# Altium footprint library DIP Switch Array.PcbLib: 2 footprints
Each footprint in its own frame and in the unit in brackets; x right, y up, seen from the top. Pads: shape width x height; smd on the part's side, far side on the other; paste and mask are expansions set on the pad; w line width, h text height; cw(c..) or ccw(c..) is an arc to the next point about the centre after c.
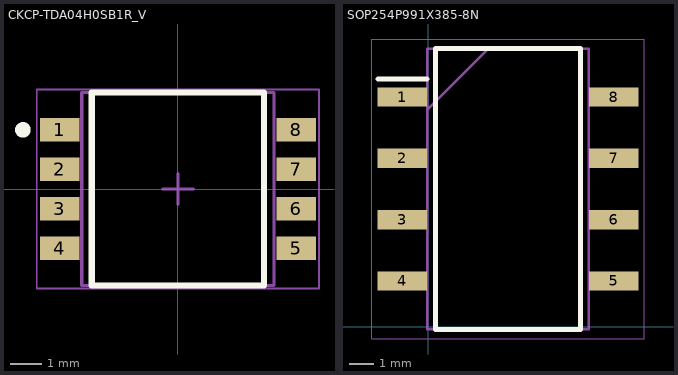
[diagram p0: the footprints below, top view; thin cyan lines are the x and y axes]

## CKCP-TDA04H0SB1R_V [mm] "SMD, 8-Leads, Body 6.21x6.2mm, Pitch 1.27mm"
height 2.3
pads (8):
  rect 1.27x0.76 smd: 1(-3.81,1.905) 2(-3.81,0.635) 3(-3.81,-0.635) 4(-3.81,-1.905) 5(3.81,-1.905) 6(3.81,-0.635) 7(3.81,0.635) 8(3.81,1.905)
Top Overlay:
  circle w0.25: c-4.995,1.905 r0.125
  lines w0.2: -2.775,-3.105 2.775,-3.105 2.775,3.105 -2.775,3.105 -2.775,-3.105
Mechanical 13:
  lines w0.1: -3.1,-3.105 3.1,-3.105 3.1,3.105 -3.1,3.105 -3.1,-3.105
Mechanical 15:
  lines w0.05: -4.545,-3.205 4.545,-3.205 4.545,3.205 -4.545,3.205 -4.545,-3.205
  lines w0.1: -0.5,0 0.5,0 ; 0,-0.5 0,0.5
3D body "tda04h0sb1_012011.stp": height 2.3, standoff 0, extent -4.06,-3.105 4.06,3.105

## SOP254P991X385-8N [mm]
pads (8):
  rect 2.05x0.8 smd: 1(-1.073,9.525) 2(-1.073,6.985) 3(-1.073,4.445) 4(-1.073,1.905) 5(7.677,1.905) 6(7.677,4.445) 7(7.677,6.985) 8(7.677,9.525)
Top Overlay:
  lines w0.2: -2.098,10.275 -0.048,10.275 ; 0.302,-0.1 6.302,-0.1 6.302,11.53 0.302,11.53 0.302,-0.1
Mechanical 15:
  lines w0.1: -0.048,8.99 2.492,11.53 ; -0.048,-0.1 6.652,-0.1 6.652,11.53 -0.048,11.53 -0.048,-0.1
Mechanical 20:
  lines w0.05: -2.348,-0.5 8.952,-0.5 8.952,11.93 -2.348,11.93 -2.348,-0.5